# Altium footprint library DSC1001AL5-100.0000.PcbLib: 1 footprints
Each footprint in its own frame and in the unit in brackets; x right, y up, seen from the top. Pads: shape width x height; smd on the part's side, far side on the other; paste and mask are expansions set on the pad; w line width, h text height; cw(c..) or ccw(c..) is an arc to the next point about the centre after c.
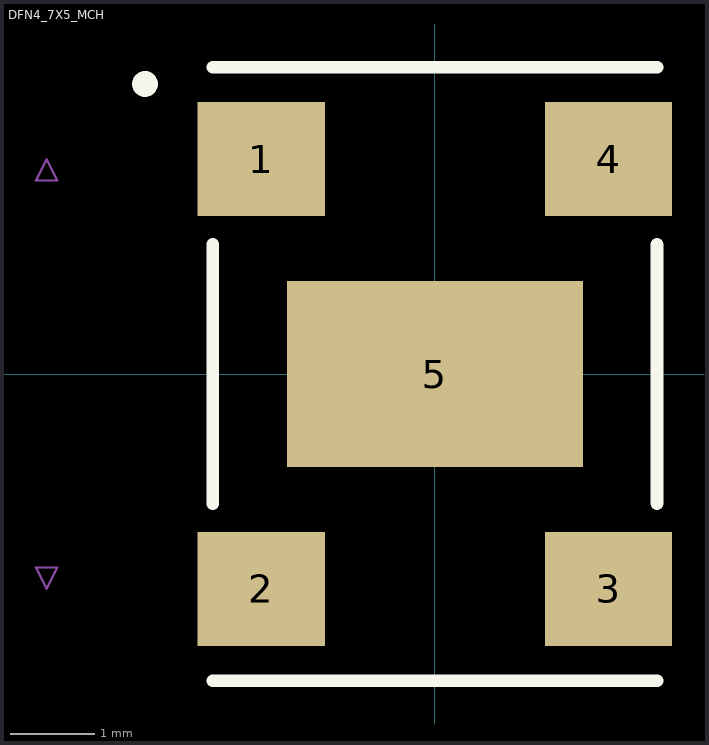
[diagram p0: the footprint, top view; thin cyan lines are the x and y axes]

## DFN4_7X5_MCH [mm]
pads (5):
  rect 1.505x1.349 smd paste+0 mask+0: 1(-2.052,2.54) 2(-2.052,-2.54) 3(2.052,-2.54) 4(2.052,2.54)
  rect 3.5x2.2 smd paste+0 mask+0: 5(0,0)
Top Overlay:
  circle w0.152: c-3.429,3.429 r0.076
  lines w0.152: -2.627,-3.627 2.627,-3.627 ; -2.627,-1.533 -2.627,1.533 ; -2.627,3.627 2.627,3.627 ; 2.627,-1.533 2.627,1.533
Mechanical 7:
  lines w0.025: -4.719,-2.286 -4.592,-2.54 -4.465,-2.286 -4.719,-2.286 ; -4.719,2.286 -4.592,2.54 -4.465,2.286 -4.719,2.286
3D body "DFN4_7X5_MCH.step": height 0.85, standoff 0, extent -2.46,-3.5 2.54,3.5